# EAGLE library part MIC5357-3.3/1.8 (library LinnesLab-Power)
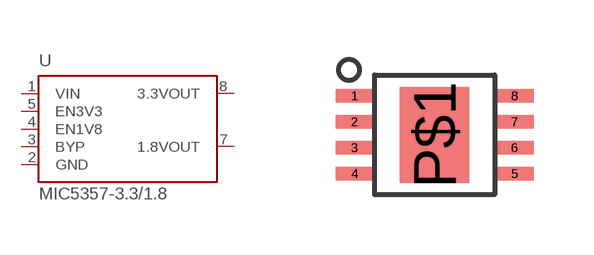
[diagram p12: symbol with the pads of 8-MSOP-EP; footprint 8-MSOP-EP]

Designator prefix U

## MIC5357-3.3/1.8  [8-MSOP-EP]
1  VIN
2  GND
3  BYP
4  EN1V8
5  EN3V3
7  1.8VOUT
8  3.3VOUT

## Footprint 8-MSOP-EP (pad centres in mm)
smd 0.95 x 0.33: 1 -2,0.975; 2 -2,0.325; 3 -2,-0.325; 4 -2,-0.975; 5 2,-0.975; 6 2,-0.325; 7 2,0.325; 8 2,0.975
smd 1.73 x 2.4: P$1 0,0